# EAGLE library part EX_CC1101 (library rf_connect)
CC1101 Breakout Pins Use this to connect the common CC1101 radio boards
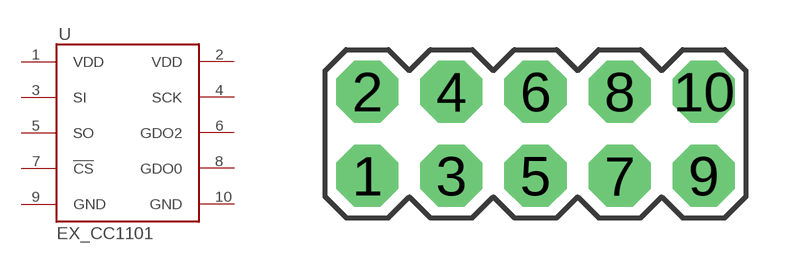
[diagram p1: symbol with the pads of 2X5; footprint 2X5]

Designator prefix U

## EX_CC1101  [2X5]
1  VDD
2  VDD
3  SI
4  SCK
5  SO
6  GDO2
7  !CS
8  GDO0
9  GND
10  GND

## Footprint 2X5 (pad centres in mm)
drill 1.016 pad 1.88 octagon: 1 -5.08,-1.27; 2 -5.08,1.27; 3 -2.54,-1.27; 4 -2.54,1.27; 5 0,-1.27; 6 0,1.27; 7 2.54,-1.27; 8 2.54,1.27; 9 5.08,-1.27; 10 5.08,1.27